# Altium schematic symbol library 2020-10-28_07-20-09.SchLib: 2 symbols
Pins are listed as number, name and electrical type; pins without a type are passive.

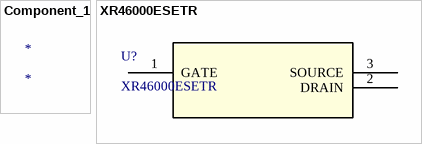
[diagram p0: symbols Component_1 to XR46000ESETR]

## Component_1
designator *

## XR46000ESETR
designator U?
No Description Available; Vendor: Exar; Built_By: EMA_Jessica; SourceLibrary: Exar_2019-09-16; Manufacturer_Part_Number: XR46000ESETR; Copyright: Copyright (C) 2018 Accelerated Designs. All rights reserved; RefDes: RefDes; Type: DEV
footprint SOT-223-3_VAR-AA
pins: 1 GATE, 2 DRAIN, 3 SOURCE